# Altium footprint library ICS-43434.PcbLib: 1 footprints
Each footprint in its own frame and in the unit in brackets; x right, y up, seen from the top. Pads: shape width x height; smd on the part's side, far side on the other; paste and mask are expansions set on the pad; w line width, h text height; cw(c..) or ccw(c..) is an arc to the next point about the centre after c.
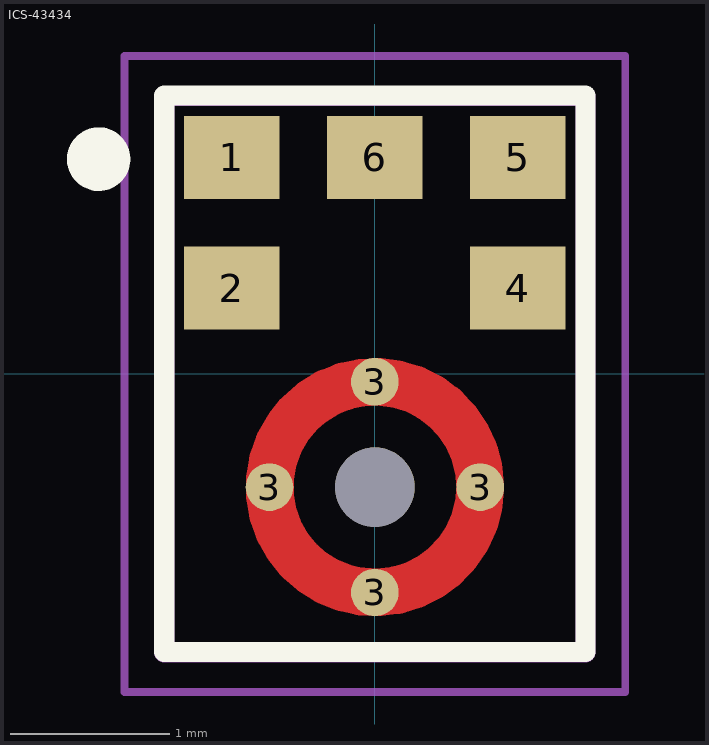
[diagram p0: the footprint, top view; thin cyan lines are the x and y axes]

## ICS-43434 [mm]
pads (10):
  rect 0.6x0.522 smd paste-0.05: 1(-0.9,1.361) 2(-0.9,0.539) 4(0.9,0.539) 5(0.9,1.361) 6(0,1.361)
  round 0.3 smd: 3(-0.663,-0.713) 3(0,-1.376) 3(0.663,-0.713)
  round 0.3 smd paste+0: 3(0,-0.051)
  round 0.5 hole 0.5 unplated mask+0.665: ""(0,-0.713)
Top Layer:
  circle w0.3: c0,-0.713 r0.663
Top Overlay:
  circle w0.2: c-1.737,1.35 r0.1
  lines w0.127: -1.325,-1.75 -1.325,1.75 1.325,1.75 1.325,-1.75 -1.325,-1.75
Mechanical 13:
  lines w0.127: -1.325,-1.753 1.325,-1.753 1.325,1.747 -1.325,1.747 -1.325,-1.753
Mechanical 15:
  lines w0.05: -1.575,-2.003 1.575,-2.003 1.575,2 -1.575,2 -1.575,-2.003
3D body "ICS-43434.STEP": height 0.98, standoff 0, extent -1.325,-1.75 1.325,1.75